# Altium schematic symbol library LEDs.SchLib: 5 symbols
Pins are listed as number, name and electrical type; pins without a type are passive.

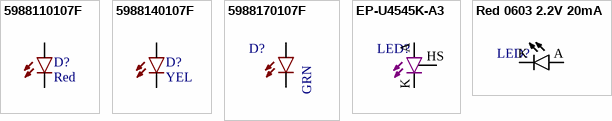
[diagram p0: symbols 5988110107F to Red 0603 2.2V 20mA]

## 5988110107F
designator D?, comment Red
LED 0805 Red; MANUFACTURER: Dialight; MANUFACTURER #: 5988110107F; PART: LED Red 0805; PART DESCRIPTION: Red 635nm LED Indication - Discrete 2.2V 0805 (2012 Metric); TOLERANCE: -NA-; EE_SPEC: Vf=2.2V; VALUE: Red; DISTRIBUTOR #: 350-2038-2-ND; DISTRIBUTOR: Digikey
footprint LED2012120
pins: A, C

## 5988140107F
designator D?, comment YEL
LED 0805 Yellow; MANUFACTURER: Dialight; MANUFACTURER #: 5988140107F; PART: LED Yellow 0805; PART DESCRIPTION: Yellow 593nm LED Indication - Discrete 2V 0805 (2012 Metric); TOLERANCE: -NA-; EE_SPEC: Vf=2V; VALUE: YEL; DISTRIBUTOR #: 350-2041-2-ND; DISTRIBUTOR: Digikey
footprint LED2012120
pins: A, C

## 5988170107F
designator D?, comment GRN
LED 0805 Green; MANUFACTURER: Dialight; MANUFACTURER #: 5988170107F; PART: LED GREEN CLEAR 0805 SMD; PART DESCRIPTION: Green 566nm LED Indication - Discrete 2V 0805 (2012 Metric); TOLERANCE: -NA-; EE_SPEC: Vf=2V; VALUE: GRN; DISTRIBUTOR #: 350-2044-2-ND; DISTRIBUTOR: Digikey
footprint LED2012120
pins: A, C

## EP-U4545K-A3
designator LED?, comment UV  (value not drawn)
LED UV 1.5A; MANUFACTURER: EPILEDS; MANUFACTURER #: EP-U4545K-A3; TOLERANCE: -NA-; EE_SPEC: Vf=2.8-3.8V; VALUE: UV; PART: LED UV 1.5A
footprint LED_U4545
pins: A, HS K, K

## Red 0603 2.2V 20mA
designator LED?, comment RED  (value not drawn)
MINI-MOLD CHIP LED (IVRANK REDUC; MANUFACTURER: Rohm; MANUFACTURER #: SML-D12V1WT86; PART: RED LED; PART DESCRIPTION: Red 630nm LED Indication - Discrete 2.2V 0603 (1608 Metric); TOLERANCE: -NA-; EE_SPEC: Vf=2.2; 20mA; 630nm; VALUE: RED; DISTRIBUTOR #: SML-D12V1WT86TR-ND; DISTRIBUTOR: Digikey
footprint LED_0603
pins: A, K